# Altium schematic symbol library ADS1299-4PAGR.SchLib: 1 symbol
Pins are listed as number, name and electrical type; pins without a type are passive.

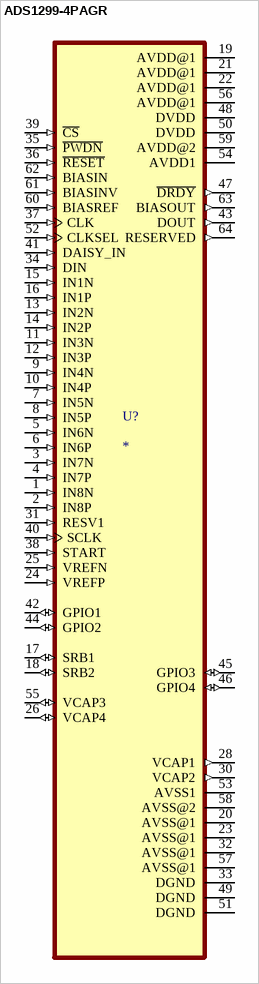
[diagram p0: symbol ADS1299-4PAGR]

## ADS1299-4PAGR
designator U?
Low-Noise, 4-Channel, 24-Bit Analog-to-Digital Converter for Biopotential Measurements; MP: ADS1299-4PAGR; MF: Texas Instruments; Check_prices: https://www.snapeda.com/parts/ADS1299-4PAGR/Texas+Instruments/view-part/?ref=eda; Value: *; Availability: In Stock; Price: None; SnapEDA_Link: https://www.snapeda.com/parts/ADS1299-4PAGR/Texas+Instruments/view-part/?ref=snap; Package: TQFP-64 Texas Instruments; Purchase-URL: https://pricing.snapeda.com/search/part/ADS1299-4PAGR/?ref=eda
footprint QFP50P1200X1200X120-64N
pins: 1 IN8N (in), 2 IN8P (in), 3 IN7N (in), 4 IN7P (in), 5 IN6N (in), 6 IN6P (in), 7 IN5N (in), 8 IN5P (in), 9 IN4N (in), 10 IN4P (in), 11 IN3N (in), 12 IN3P (in), 13 IN2N (in), 14 IN2P (in), 15 IN1N (in), 16 IN1P (in), 17 SRB1 (io), 18 SRB2 (io), 19 AVDD@1 (power), 20 AVSS@1 (power), 21 AVDD@1 (power), 22 AVDD@1 (power), 23 AVSS@1 (power), 24 VREFP (in), 25 VREFN (in), 26 VCAP4 (io), 28 VCAP1 (out), 30 VCAP2 (out), 31 RESV1 (in), 32 AVSS@1 (power), 33 DGND (power), 34 DIN (in), 35 ~{PWDN} (in), 36 ~{RESET} (in), 37 CLK (in), 38 START (in), 39 ~{CS} (in), 40 SCLK (in), 41 DAISY_IN (in), 42 GPIO1 (io), 43 DOUT (out), 44 GPIO2 (io), 45 GPIO3 (io), 46 GPIO4 (io), 47 ~{DRDY} (out), 48 DVDD (power), 49 DGND (power), 50 DVDD (power), 51 DGND (power), 52 CLKSEL (in), 53 AVSS1 (power), 54 AVDD1 (power), 55 VCAP3 (io), 56 AVDD@1 (power), 57 AVSS@1 (power), 58 AVSS@2 (power), 59 AVDD@2 (power), 60 BIASREF (in), 61 BIASINV (in), 62 BIASIN (in), 63 BIASOUT (out), 64 RESERVED (out)